# Altium footprint library 74737-0016.PcbLib: 1 footprints
Each footprint in its own frame and in the unit in brackets; x right, y up, seen from the top. Pads: shape width x height; smd on the part's side, far side on the other; paste and mask are expansions set on the pad; w line width, h text height; cw(c..) or ccw(c..) is an arc to the next point about the centre after c.
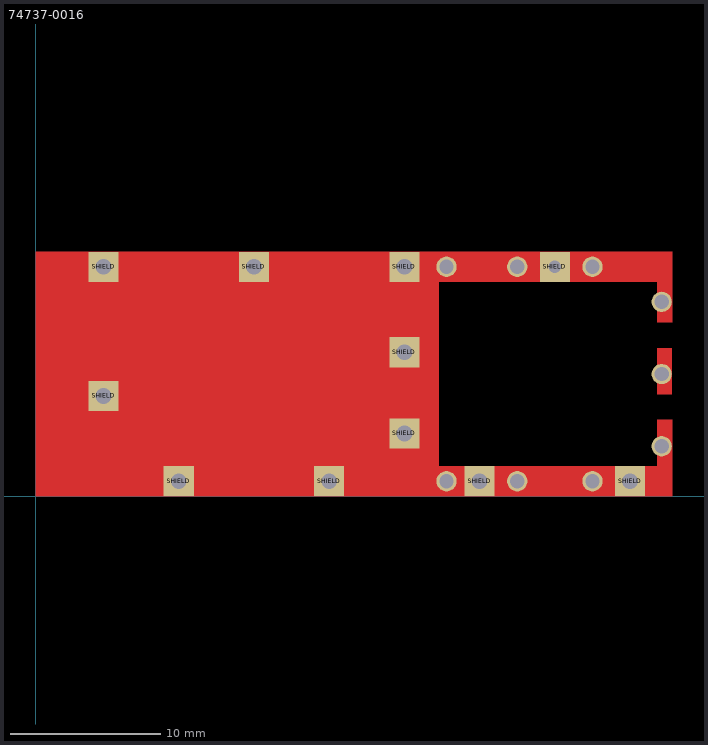
[diagram p0: the footprint, top view; thin cyan lines are the x and y axes]

## 74737-0016 [mm] "1x1 sfp cage"
height 10
pads (20):
  rect 2x2 hole 1.05: SHIELD(4.5,6.67) SHIELD(4.5,15.25) SHIELD(9.5,1) SHIELD(14.5,15.25) SHIELD(19.5,1) SHIELD(24.5,4.17) SHIELD(24.5,9.57) SHIELD(24.5,15.25) SHIELD(29.5,1) SHIELD(39.5,1)
  round 1.35 hole 0.95: SHIELD(27.3,1) SHIELD(27.3,15.25) SHIELD(32,1) SHIELD(32,15.25) SHIELD(37,1) SHIELD(37,15.25) SHIELD(41.6,3.32) SHIELD(41.6,8.12) SHIELD(41.6,12.92)
  rect 2x2 hole 0.85: SHIELD(34.5,15.25)
Top Layer:
  rectangle: 41.299,6.77 42.299,9.87
  region: 0,16.25 0,0 42.3,0 42.3,5.07 41.3,5.07 41.3,2 26.8,2 26.8,14.25 41.3,14.25 41.3,11.57 42.3,11.57 42.3,16.25
3D body "74737-0016.stp": height 10.26, standoff -3.66, extent -7.029,0.31 41.979,15.946